# Altium schematic symbol library triacs.SchLib: 5 symbols
Pins are listed as number, name and electrical type; pins without a type are passive.

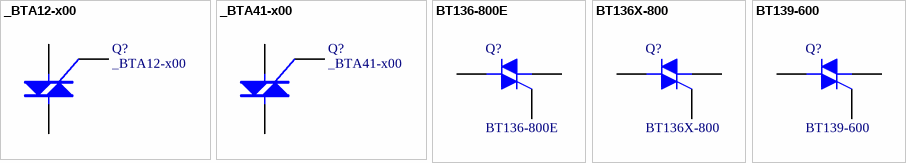
[diagram p0: symbols _BTA12-x00 to BT139-600]

## _BTA12-x00
designator Q?
Triac; Published: 19-Feb-2006
pins: 1 A1, 2 A2, 3 G

## _BTA41-x00
designator Q?
Triac; Published: 19-Feb-2006
pins: 1 A1, 2 A2, 3 G

## BT136-800E
designator Q?
4Q Triac, 800V, 4(25)A; ComponentLink1Description: Manufacturer Link; ComponentLink1URL: http://www.motorola.com/
simulation model MAC15A8 (Spice Subcircuit)
footprint TO220
footprint TO220H
pins: 1 M1, 2 M2, 3 G

## BT136X-800
designator Q?
Isolated Case Triac, 800V, 4(25)A; ComponentLink1Description: Manufacturer Link; ComponentLink1URL: http://www.motorola.com/
simulation model MAC15A8 (Spice Subcircuit)
footprint TO-220F (TO, Thru-Hole, Vertical, Heatsink Mounted; 3 In-Line Leads; Pitch 2.54 mm)
footprint TO-220FH
pins: 1 M1, 2 M2, 3 G

## BT139-600
designator Q?
Silicon Bidirectional Triode Thyristor; Note: Pin 2 is electrically connected to Pin 4 (TAB); Published: 29-Sep-2000; LatestRevisionDate: 17-Jul-2002; LatestRevisionNote: Re-released for DXP Platform.; DatasheetVersion: 1999; PackageReference: 369-03; Publisher: Altium Limited; PackageDescription: TO, Thru-Hole, Vertical, Heatsink Mounted; 3 In-Line Leads; Pitch 2.28 mm; ComponentLink1Description: Manufacturer Link; ComponentLink1URL: http://www.motorola.com/
simulation model MAC15A8 (Spice Subcircuit)
footprint TO220
footprint TO220H
pins: 1 M1, 2 M2, 3 G